# Altium integrated library TI Data Converters Analog to Digital Converter.IntLib: 2197 symbols (part 166 of 168)
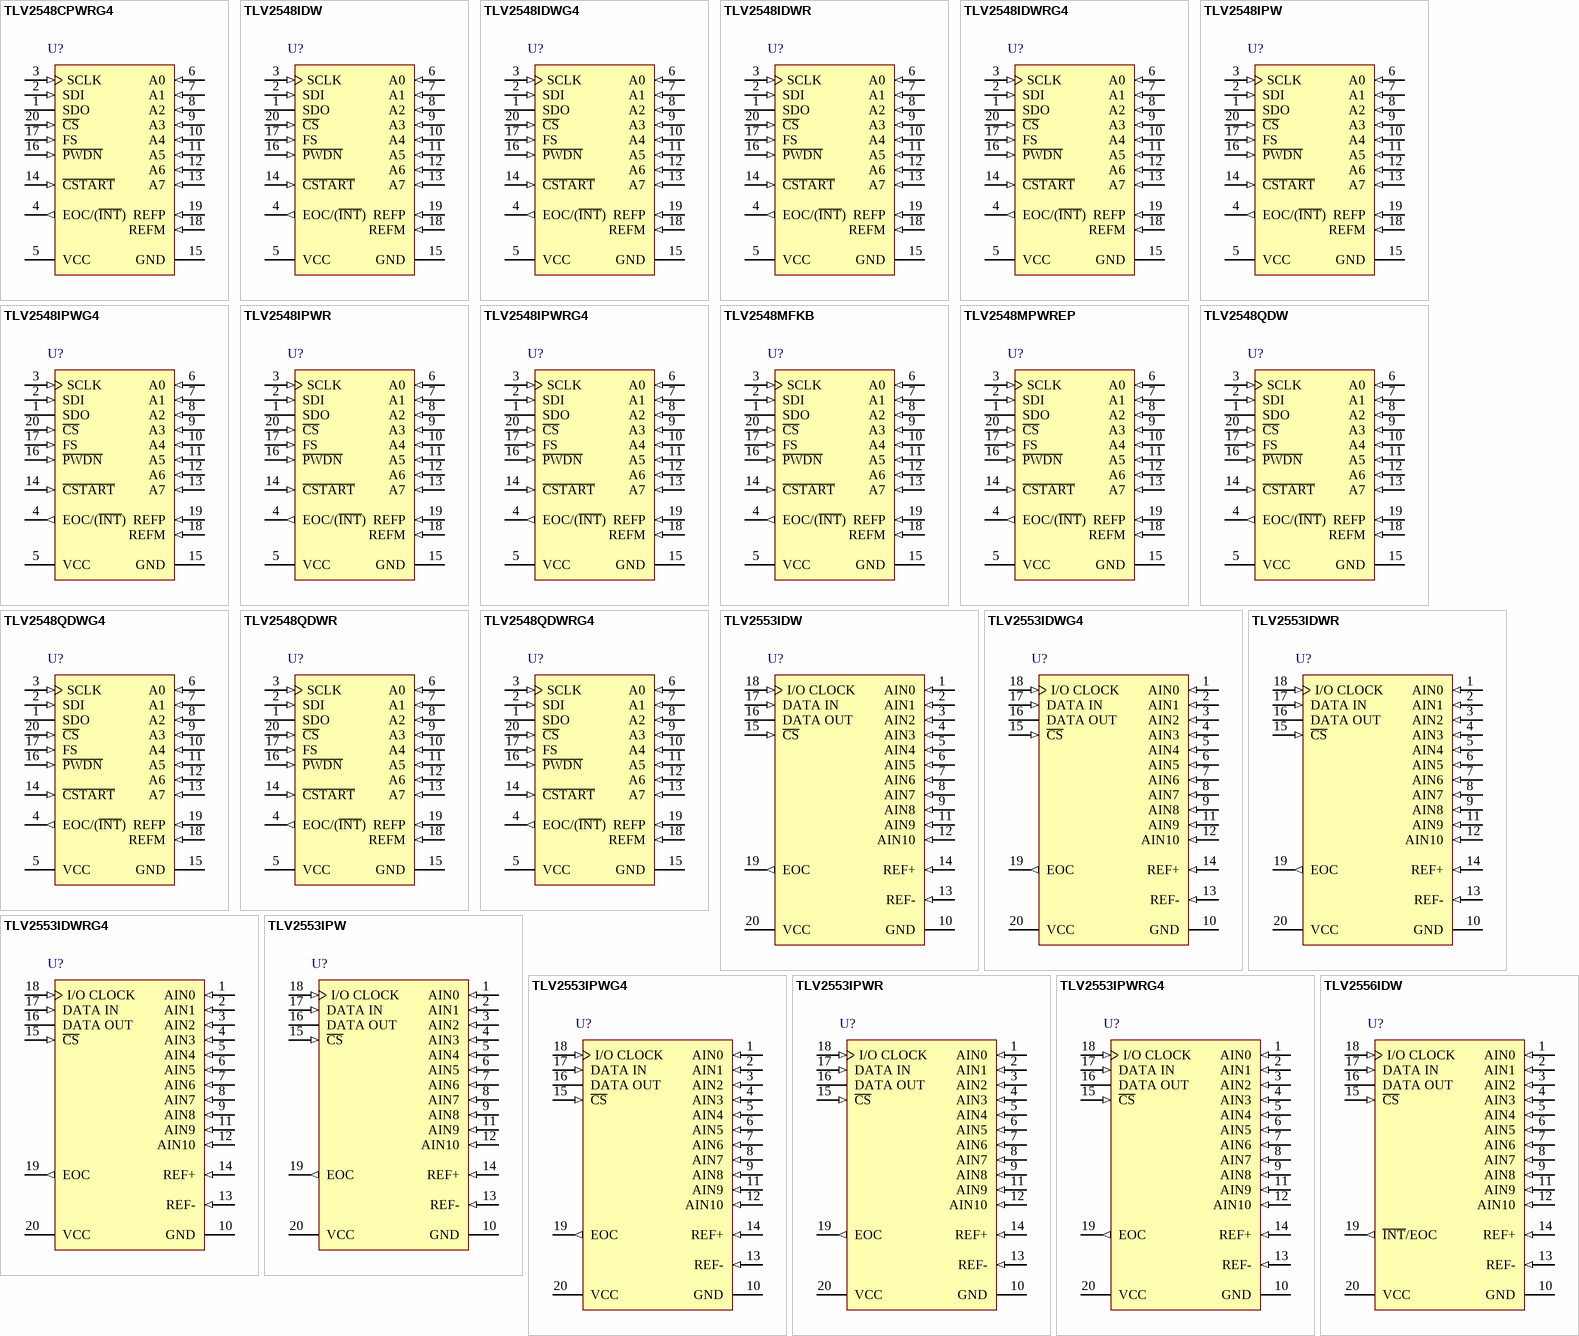
[diagram p291: symbols TLV2548CPWRG4 to TLV2556IDW]

## TLV2553IDWRG4
designator U?
12-Bit, 200 kSPS, 11 Channel, Low Power, Serial ADC Serial Out, with Power Down, -40 to 85 degC, 20-pin SOP (PW20), Green (RoHS & no Sb/Br); Manufacturer: Texas Instruments; PartNumber: TLV2553IDWRG4; # Input Channels: 11; Analog Voltage AV/DD(Max)(V): 5.5; Analog Voltage AV/DD(Min)(V): 2.7; Architecture: SAR; INL(Max)(+/-LSB): 1; Interface: Serial SPI; Resolution(Bits): 12; Sample Rate (max)(SPS): 200k; SubFamily: Precision ADC (<=10MSPS); DatasheetVersion: SLAS354B; PackageVersion: 4040000-4/G, 01/2011; PackageReference: DW20; PackageDescription: 20-Pin Plastic Small Outline, Body 12.8 x 7.5 mm, Pitch 1.27 mm; Supplier 1: Digi-Key; Supplier Part Number 1: ADS61JB23IRHAR-ND; Supplier 2: Newark; Supplier Part Number 2: 55W5800; Supplier 3: Mouser; Supplier Part Number 3: 595-ADS61JB23IRHAR; Digital Supply(Max)(V): 5.5; Digital Supply(Min)(V): 2.7; Eco-Plan: Green (RoHS & no Sb/Br); Mounting Technology: Surface Mount; Code_JEDEC: MO-013; ComponentLink1Description: Manufacturer URL; ComponentLink1URL: http://www.ti.com/; ComponentLink2Description: Datasheet; ComponentLink2URL: http://www.ti.com/general/docs/lit/getliterature.tsp?genericPartNumber=TLV2553&fileType=pdf; ComponentLink3Description: Package Specification; ComponentLink3URL: http://www.ti.com/lit/ml/mpds173a/mpds173a.pdf
footprint TI-DW20_N (SOIC, 20-Leads, Body 12.8x7.5mm, Pitch 1.27mm, IPC Medium Density)
footprint TI-DW20_L (SOIC, 20-Leads, Body 12.8x7.5mm, Pitch 1.27mm, IPC High Density)
footprint TI-DW20_M (SOIC, 20-Leads, Body 12.8x7.5mm, Pitch 1.27mm, IPC Low Density)
pins: 1 AIN0 (in) "Analog input. These 11 analog-signal inputs are internally multiplexed.", 2 AIN1 (in) "Analog input. These 11 analog-signal inputs are internally multiplexed.", 3 AIN2 (in) "Analog input. These 11 analog-signal inputs are internally multiplexed.", 4 AIN3 (in) "Analog input. These 11 analog-signal inputs are internally multiplexed.", 5 AIN4 (in) "Analog input. These 11 analog-signal inputs are internally multiplexed.", 6 AIN5 (in) "Analog input. These 11 analog-signal inputs are internally multiplexed.", 7 AIN6 (in) "Analog input. These 11 analog-signal inputs are internally multiplexed.", 8 AIN7 (in) "Analog input. These 11 analog-signal inputs are internally multiplexed.", 9 AIN8 (in) "Analog input. These 11 analog-signal inputs are internally multiplexed.", 10 GND (power) "Ground. GND is the ground return terminal for the internal circuitry. Unless otherwise noted, all voltage measurements are with respect to GND.", 11 AIN9 (in) "Analog input. These 11 analog-signal inputs are internally multiplexed.", 12 AIN10 (in) "Analog input. These 11 analog-signal inputs are internally multiplexed.", 13 REF- (in) "Negative reference voltage. The lower reference voltage value (nominally ground) is applied to REF-. This pin is connected to analog ground (GND of the ADC) when internal reference is used.", 14 REF+ (in) "Positive reference voltage The upper reference voltage value (nominally VCC) is applied to REF+. The maximum analog input voltage range is determined by the difference between the voltage applied to terminals REF+ and REF-.", 15 ~{CS} (in) "Chip select. A high-to-low transition on C\S\ resets the internal counters and controls and enables DATA OUT, DATA IN, and I/O CLOCK. A low-to-high transition disables DATA IN and I/O CLOCK within a setup time.", 16 DATA OUT (hiz) "The 3-state serial output for the A/D conversion result. DATA OUT is in the high-impedance state when C\S\ is high and active when C\S\ is low. With a valid C\S\, DATA OUT is removed from the high-impedance state and is (See Datasheet)", 17 DATA IN (in) "Serial data input. The 4-bit serial data can be used as address selects the desired analog input channel or test voltage to be converted next, or a command to activate other other features. The input data is presented with (See Datasheet)", 18 I/O CLOCK (in) "Input /output clock. I/O CLOCK receives the serial input and performs the following four functions:", 19 EOC (out) "Status output, used to indicate the end of conversion (EOC) to the host processor. EOC goes from a high to a low logic level after the falling edge of the last I/O CLOCK and remains low until the conversion is complete and (See Datasheet)", 20 VCC (power) "Positive supply voltage"

## TLV2553IPW
designator U?
12-Bit, 200 kSPS, 11 Channel, Low Power, Serial ADC Serial Out, with Power Down, -40 to 85 degC, 20-pin SOP (PW20), Green (RoHS & no Sb/Br); Manufacturer: Texas Instruments; PartNumber: TLV2553IPW; # Input Channels: 11; Analog Voltage AV/DD(Max)(V): 5.5; Analog Voltage AV/DD(Min)(V): 2.7; Architecture: SAR; INL(Max)(+/-LSB): 1; Interface: Serial SPI; Resolution(Bits): 12; Sample Rate (max)(SPS): 200k; SubFamily: Precision ADC (<=10MSPS); DatasheetVersion: SLAS354B; PackageVersion: 4040064-5/G, 02/2011; PackageReference: PW20; PackageDescription: 20-Pin Plastic Small Outline, Body 6.5 x 4.4 mm, Pitch 0.65 mm; Supplier 1: Digi-Key; Supplier Part Number 1: ADC10040QCIMT-ND; Supplier 2: Mouser; Supplier Part Number 2: 926-ADC10040QCIMT; Digital Supply(Max)(V): 5.5; Digital Supply(Min)(V): 2.7; Eco-Plan: Green (RoHS & no Sb/Br); Mounting Technology: Surface Mount; Code_JEDEC: MO-153; ComponentLink1Description: Manufacturer URL; ComponentLink1URL: http://www.ti.com/; ComponentLink2Description: Datasheet; ComponentLink2URL: http://www.ti.com/general/docs/lit/getliterature.tsp?genericPartNumber=TLV2553&fileType=pdf; ComponentLink3Description: Package Specification; ComponentLink3URL: http://www.ti.com.cn/cn/lit/ml/mpds362/mpds362.pdf
footprint TI-PW20_N (SOP, 20-Leads, Body 6.5x4.4mm, Pitch 0.65mm, IPC Medium Density)
footprint TI-PW20_L (SOP, 20-Leads, Body 6.5x4.4mm, Pitch 0.65mm, IPC High Density)
footprint TI-PW20_M (SOP, 20-Leads, Body 6.5x4.4mm, Pitch 0.65mm, IPC Low Density)
pins: 1 AIN0 (in) "Analog input. These 11 analog-signal inputs are internally multiplexed.", 2 AIN1 (in) "Analog input. These 11 analog-signal inputs are internally multiplexed.", 3 AIN2 (in) "Analog input. These 11 analog-signal inputs are internally multiplexed.", 4 AIN3 (in) "Analog input. These 11 analog-signal inputs are internally multiplexed.", 5 AIN4 (in) "Analog input. These 11 analog-signal inputs are internally multiplexed.", 6 AIN5 (in) "Analog input. These 11 analog-signal inputs are internally multiplexed.", 7 AIN6 (in) "Analog input. These 11 analog-signal inputs are internally multiplexed.", 8 AIN7 (in) "Analog input. These 11 analog-signal inputs are internally multiplexed.", 9 AIN8 (in) "Analog input. These 11 analog-signal inputs are internally multiplexed.", 10 GND (power) "Ground. GND is the ground return terminal for the internal circuitry. Unless otherwise noted, all voltage measurements are with respect to GND.", 11 AIN9 (in) "Analog input. These 11 analog-signal inputs are internally multiplexed.", 12 AIN10 (in) "Analog input. These 11 analog-signal inputs are internally multiplexed.", 13 REF- (in) "Negative reference voltage. The lower reference voltage value (nominally ground) is applied to REF-. This pin is connected to analog ground (GND of the ADC) when internal reference is used.", 14 REF+ (in) "Positive reference voltage The upper reference voltage value (nominally VCC) is applied to REF+. The maximum analog input voltage range is determined by the difference between the voltage applied to terminals REF+ and REF-.", 15 ~{CS} (in) "Chip select. A high-to-low transition on C\S\ resets the internal counters and controls and enables DATA OUT, DATA IN, and I/O CLOCK. A low-to-high transition disables DATA IN and I/O CLOCK within a setup time.", 16 DATA OUT (hiz) "The 3-state serial output for the A/D conversion result. DATA OUT is in the high-impedance state when C\S\ is high and active when C\S\ is low. With a valid C\S\, DATA OUT is removed from the high-impedance state and is (See Datasheet)", 17 DATA IN (in) "Serial data input. The 4-bit serial data can be used as address selects the desired analog input channel or test voltage to be converted next, or a command to activate other other features. The input data is presented with (See Datasheet)", 18 I/O CLOCK (in) "Input /output clock. I/O CLOCK receives the serial input and performs the following four functions:", 19 EOC (out) "Status output, used to indicate the end of conversion (EOC) to the host processor. EOC goes from a high to a low logic level after the falling edge of the last I/O CLOCK and remains low until the conversion is complete and (See Datasheet)", 20 VCC (power) "Positive supply voltage"

## TLV2553IPWG4
designator U?
12-Bit, 200 kSPS, 11 Channel, Low Power, Serial ADC Serial Out, with Power Down, -40 to 85 degC, 20-pin SOP (PW20), Green (RoHS & no Sb/Br); Manufacturer: Texas Instruments; PartNumber: TLV2553IPWG4; # Input Channels: 11; Analog Voltage AV/DD(Max)(V): 5.5; Analog Voltage AV/DD(Min)(V): 2.7; Architecture: SAR; INL(Max)(+/-LSB): 1; Interface: Serial SPI; Resolution(Bits): 12; Sample Rate (max)(SPS): 200k; SubFamily: Precision ADC (<=10MSPS); DatasheetVersion: SLAS354B; PackageVersion: 4040064-5/G, 02/2011; PackageReference: PW20; PackageDescription: 20-Pin Plastic Small Outline, Body 6.5 x 4.4 mm, Pitch 0.65 mm; Supplier 1: Digi-Key; Supplier Part Number 1: ADS61JB23IRHAT-ND; Supplier 2: Newark; Supplier Part Number 2: 55W5801; Supplier 3: Mouser; Supplier Part Number 3: 595-ADS61JB23IRHAT; Digital Supply(Max)(V): 5.5; Digital Supply(Min)(V): 2.7; Eco-Plan: Green (RoHS & no Sb/Br); Mounting Technology: Surface Mount; Code_JEDEC: MO-153; ComponentLink1Description: Manufacturer URL; ComponentLink1URL: http://www.ti.com/; ComponentLink2Description: Datasheet; ComponentLink2URL: http://www.ti.com/general/docs/lit/getliterature.tsp?genericPartNumber=TLV2553&fileType=pdf; ComponentLink3Description: Package Specification; ComponentLink3URL: http://www.ti.com.cn/cn/lit/ml/mpds362/mpds362.pdf
footprint TI-PW20_N (SOP, 20-Leads, Body 6.5x4.4mm, Pitch 0.65mm, IPC Medium Density)
footprint TI-PW20_L (SOP, 20-Leads, Body 6.5x4.4mm, Pitch 0.65mm, IPC High Density)
footprint TI-PW20_M (SOP, 20-Leads, Body 6.5x4.4mm, Pitch 0.65mm, IPC Low Density)
pins: 1 AIN0 (in) "Analog input. These 11 analog-signal inputs are internally multiplexed.", 2 AIN1 (in) "Analog input. These 11 analog-signal inputs are internally multiplexed.", 3 AIN2 (in) "Analog input. These 11 analog-signal inputs are internally multiplexed.", 4 AIN3 (in) "Analog input. These 11 analog-signal inputs are internally multiplexed.", 5 AIN4 (in) "Analog input. These 11 analog-signal inputs are internally multiplexed.", 6 AIN5 (in) "Analog input. These 11 analog-signal inputs are internally multiplexed.", 7 AIN6 (in) "Analog input. These 11 analog-signal inputs are internally multiplexed.", 8 AIN7 (in) "Analog input. These 11 analog-signal inputs are internally multiplexed.", 9 AIN8 (in) "Analog input. These 11 analog-signal inputs are internally multiplexed.", 10 GND (power) "Ground. GND is the ground return terminal for the internal circuitry. Unless otherwise noted, all voltage measurements are with respect to GND.", 11 AIN9 (in) "Analog input. These 11 analog-signal inputs are internally multiplexed.", 12 AIN10 (in) "Analog input. These 11 analog-signal inputs are internally multiplexed.", 13 REF- (in) "Negative reference voltage. The lower reference voltage value (nominally ground) is applied to REF-. This pin is connected to analog ground (GND of the ADC) when internal reference is used.", 14 REF+ (in) "Positive reference voltage The upper reference voltage value (nominally VCC) is applied to REF+. The maximum analog input voltage range is determined by the difference between the voltage applied to terminals REF+ and REF-.", 15 ~{CS} (in) "Chip select. A high-to-low transition on C\S\ resets the internal counters and controls and enables DATA OUT, DATA IN, and I/O CLOCK. A low-to-high transition disables DATA IN and I/O CLOCK within a setup time.", 16 DATA OUT (hiz) "The 3-state serial output for the A/D conversion result. DATA OUT is in the high-impedance state when C\S\ is high and active when C\S\ is low. With a valid C\S\, DATA OUT is removed from the high-impedance state and is (See Datasheet)", 17 DATA IN (in) "Serial data input. The 4-bit serial data can be used as address selects the desired analog input channel or test voltage to be converted next, or a command to activate other other features. The input data is presented with (See Datasheet)", 18 I/O CLOCK (in) "Input /output clock. I/O CLOCK receives the serial input and performs the following four functions:", 19 EOC (out) "Status output, used to indicate the end of conversion (EOC) to the host processor. EOC goes from a high to a low logic level after the falling edge of the last I/O CLOCK and remains low until the conversion is complete and (See Datasheet)", 20 VCC (power) "Positive supply voltage"

## TLV2553IPWR
designator U?
12-Bit, 200 kSPS, 11 Channel, Low Power, Serial ADC Serial Out, with Power Down, -40 to 85 degC, 20-pin SOP (PW20), Green (RoHS & no Sb/Br); Manufacturer: Texas Instruments; PartNumber: TLV2553IPWR; # Input Channels: 11; Analog Voltage AV/DD(Max)(V): 5.5; Analog Voltage AV/DD(Min)(V): 2.7; Architecture: SAR; INL(Max)(+/-LSB): 1; Interface: Serial SPI; Resolution(Bits): 12; Sample Rate (max)(SPS): 200k; SubFamily: Precision ADC (<=10MSPS); DatasheetVersion: SLAS354B; PackageVersion: 4040064-5/G, 02/2011; PackageReference: PW20; PackageDescription: 20-Pin Plastic Small Outline, Body 6.5 x 4.4 mm, Pitch 0.65 mm; Digital Supply(Max)(V): 5.5; Digital Supply(Min)(V): 2.7; Eco-Plan: Green (RoHS & no Sb/Br); Mounting Technology: Surface Mount; Code_JEDEC: MO-153; ComponentLink1Description: Manufacturer URL; ComponentLink1URL: http://www.ti.com/; ComponentLink2Description: Datasheet; ComponentLink2URL: http://www.ti.com/general/docs/lit/getliterature.tsp?genericPartNumber=TLV2553&fileType=pdf; ComponentLink3Description: Package Specification; ComponentLink3URL: http://www.ti.com.cn/cn/lit/ml/mpds362/mpds362.pdf
footprint TI-PW20_N (SOP, 20-Leads, Body 6.5x4.4mm, Pitch 0.65mm, IPC Medium Density)
footprint TI-PW20_L (SOP, 20-Leads, Body 6.5x4.4mm, Pitch 0.65mm, IPC High Density)
footprint TI-PW20_M (SOP, 20-Leads, Body 6.5x4.4mm, Pitch 0.65mm, IPC Low Density)
pins: 1 AIN0 (in) "Analog input. These 11 analog-signal inputs are internally multiplexed.", 2 AIN1 (in) "Analog input. These 11 analog-signal inputs are internally multiplexed.", 3 AIN2 (in) "Analog input. These 11 analog-signal inputs are internally multiplexed.", 4 AIN3 (in) "Analog input. These 11 analog-signal inputs are internally multiplexed.", 5 AIN4 (in) "Analog input. These 11 analog-signal inputs are internally multiplexed.", 6 AIN5 (in) "Analog input. These 11 analog-signal inputs are internally multiplexed.", 7 AIN6 (in) "Analog input. These 11 analog-signal inputs are internally multiplexed.", 8 AIN7 (in) "Analog input. These 11 analog-signal inputs are internally multiplexed.", 9 AIN8 (in) "Analog input. These 11 analog-signal inputs are internally multiplexed.", 10 GND (power) "Ground. GND is the ground return terminal for the internal circuitry. Unless otherwise noted, all voltage measurements are with respect to GND.", 11 AIN9 (in) "Analog input. These 11 analog-signal inputs are internally multiplexed.", 12 AIN10 (in) "Analog input. These 11 analog-signal inputs are internally multiplexed.", 13 REF- (in) "Negative reference voltage. The lower reference voltage value (nominally ground) is applied to REF-. This pin is connected to analog ground (GND of the ADC) when internal reference is used.", 14 REF+ (in) "Positive reference voltage The upper reference voltage value (nominally VCC) is applied to REF+. The maximum analog input voltage range is determined by the difference between the voltage applied to terminals REF+ and REF-.", 15 ~{CS} (in) "Chip select. A high-to-low transition on C\S\ resets the internal counters and controls and enables DATA OUT, DATA IN, and I/O CLOCK. A low-to-high transition disables DATA IN and I/O CLOCK within a setup time.", 16 DATA OUT (hiz) "The 3-state serial output for the A/D conversion result. DATA OUT is in the high-impedance state when C\S\ is high and active when C\S\ is low. With a valid C\S\, DATA OUT is removed from the high-impedance state and is (See Datasheet)", 17 DATA IN (in) "Serial data input. The 4-bit serial data can be used as address selects the desired analog input channel or test voltage to be converted next, or a command to activate other other features. The input data is presented with (See Datasheet)", 18 I/O CLOCK (in) "Input /output clock. I/O CLOCK receives the serial input and performs the following four functions:", 19 EOC (out) "Status output, used to indicate the end of conversion (EOC) to the host processor. EOC goes from a high to a low logic level after the falling edge of the last I/O CLOCK and remains low until the conversion is complete and (See Datasheet)", 20 VCC (power) "Positive supply voltage"

## TLV2553IPWRG4
designator U?
12-Bit, 200 kSPS, 11 Channel, Low Power, Serial ADC Serial Out, with Power Down, -40 to 85 degC, 20-pin SOIC (DW20), Green (RoHS & no Sb/Br); Manufacturer: Texas Instruments; PartNumber: TLV2553IPWRG4; # Input Channels: 11; Analog Voltage AV/DD(Max)(V): 5.5; Analog Voltage AV/DD(Min)(V): 2.7; Architecture: SAR; INL(Max)(+/-LSB): 1; Interface: Serial SPI; Resolution(Bits): 12; Sample Rate (max)(SPS): 200k; SubFamily: Precision ADC (<=10MSPS); DatasheetVersion: SLAS354B; PackageVersion: 4040064-5/G, 02/2011; PackageReference: PW20; PackageDescription: 20-Pin Plastic Small Outline, Body 6.5 x 4.4 mm, Pitch 0.65 mm; Digital Supply(Max)(V): 5.5; Digital Supply(Min)(V): 2.7; Eco-Plan: Green (RoHS & no Sb/Br); Mounting Technology: Surface Mount; Code_JEDEC: MO-153; ComponentLink1Description: Manufacturer URL; ComponentLink1URL: http://www.ti.com/; ComponentLink2Description: Datasheet; ComponentLink2URL: http://www.ti.com/general/docs/lit/getliterature.tsp?genericPartNumber=TLV2553&fileType=pdf; ComponentLink3Description: Package Specification; ComponentLink3URL: http://www.ti.com.cn/cn/lit/ml/mpds362/mpds362.pdf
footprint TI-PW20_N (SOP, 20-Leads, Body 6.5x4.4mm, Pitch 0.65mm, IPC Medium Density)
footprint TI-PW20_L (SOP, 20-Leads, Body 6.5x4.4mm, Pitch 0.65mm, IPC High Density)
footprint TI-PW20_M (SOP, 20-Leads, Body 6.5x4.4mm, Pitch 0.65mm, IPC Low Density)
pins: 1 AIN0 (in) "Analog input. These 11 analog-signal inputs are internally multiplexed.", 2 AIN1 (in) "Analog input. These 11 analog-signal inputs are internally multiplexed.", 3 AIN2 (in) "Analog input. These 11 analog-signal inputs are internally multiplexed.", 4 AIN3 (in) "Analog input. These 11 analog-signal inputs are internally multiplexed.", 5 AIN4 (in) "Analog input. These 11 analog-signal inputs are internally multiplexed.", 6 AIN5 (in) "Analog input. These 11 analog-signal inputs are internally multiplexed.", 7 AIN6 (in) "Analog input. These 11 analog-signal inputs are internally multiplexed.", 8 AIN7 (in) "Analog input. These 11 analog-signal inputs are internally multiplexed.", 9 AIN8 (in) "Analog input. These 11 analog-signal inputs are internally multiplexed.", 10 GND (power) "Ground. GND is the ground return terminal for the internal circuitry. Unless otherwise noted, all voltage measurements are with respect to GND.", 11 AIN9 (in) "Analog input. These 11 analog-signal inputs are internally multiplexed.", 12 AIN10 (in) "Analog input. These 11 analog-signal inputs are internally multiplexed.", 13 REF- (in) "Negative reference voltage. The lower reference voltage value (nominally ground) is applied to REF-. This pin is connected to analog ground (GND of the ADC) when internal reference is used.", 14 REF+ (in) "Positive reference voltage The upper reference voltage value (nominally VCC) is applied to REF+. The maximum analog input voltage range is determined by the difference between the voltage applied to terminals REF+ and REF-.", 15 ~{CS} (in) "Chip select. A high-to-low transition on C\S\ resets the internal counters and controls and enables DATA OUT, DATA IN, and I/O CLOCK. A low-to-high transition disables DATA IN and I/O CLOCK within a setup time.", 16 DATA OUT (hiz) "The 3-state serial output for the A/D conversion result. DATA OUT is in the high-impedance state when C\S\ is high and active when C\S\ is low. With a valid C\S\, DATA OUT is removed from the high-impedance state and is (See Datasheet)", 17 DATA IN (in) "Serial data input. The 4-bit serial data can be used as address selects the desired analog input channel or test voltage to be converted next, or a command to activate other other features. The input data is presented with (See Datasheet)", 18 I/O CLOCK (in) "Input /output clock. I/O CLOCK receives the serial input and performs the following four functions:", 19 EOC (out) "Status output, used to indicate the end of conversion (EOC) to the host processor. EOC goes from a high to a low logic level after the falling edge of the last I/O CLOCK and remains low until the conversion is complete and (See Datasheet)", 20 VCC (power) "Positive supply voltage"

## TLV2556IDW
designator U?
12-Bit, 200 kSPS, 11 Channel, Low Power, Serial ADC with Internal Reference, -40 to 85 degC, 20-pin SOIC (DW20), Green (RoHS & no Sb/Br); Manufacturer: Texas Instruments; PartNumber: TLV2556IDW; # Input Channels: 11; Analog Voltage AV/DD(Max)(V): 5.5; Analog Voltage AV/DD(Min)(V): 2.7; Architecture: SAR; INL(Max)(+/-LSB): 1; Interface: Serial SPI; Resolution(Bits): 12; Sample Rate (max)(SPS): 200k; SubFamily: Precision ADC (<=10MSPS); DatasheetVersion: SLAS355A; PackageVersion: 4040000-4/G, 01/2011; PackageReference: DW20; PackageDescription: 20-Pin Plastic Small Outline, Body 12.8 x 7.5 mm, Pitch 1.27 mm; Supplier 1: Digi-Key; Supplier Part Number 1: ADS131E08IPAG-ND; Supplier 2: Farnell; Supplier Part Number 2: 2211367; Supplier 3: Newark; Supplier Part Number 3: 27W9304; Supplier 4: Newark; Supplier Part Number 4: 44W8049; Supplier 5: Mouser; Supplier Part Number 5: 595-ADS131E08IPAG; Digital Supply(Max)(V): 5.5; Digital Supply(Min)(V): 2.7; Eco-Plan: Green (RoHS & no Sb/Br); Mounting Technology: Surface Mount; Code_JEDEC: MO-013; ComponentLink1Description: Manufacturer URL; ComponentLink1URL: http://www.ti.com/; ComponentLink2Description: Datasheet; ComponentLink2URL: http://www.ti.com/general/docs/lit/getliterature.tsp?genericPartNumber=TLV2556&fileType=pdf; ComponentLink3Description: Package Specification; ComponentLink3URL: http://www.ti.com/lit/ml/mpds173a/mpds173a.pdf
footprint TI-DW20_N (SOIC, 20-Leads, Body 12.8x7.5mm, Pitch 1.27mm, IPC Medium Density)
footprint TI-DW20_L (SOIC, 20-Leads, Body 12.8x7.5mm, Pitch 1.27mm, IPC High Density)
footprint TI-DW20_M (SOIC, 20-Leads, Body 12.8x7.5mm, Pitch 1.27mm, IPC Low Density)
pins: 1 AIN0 (in) "Analog input. These 11 analog-signal inputs are internally multiplexed.", 2 AIN1 (in) "Analog input. These 11 analog-signal inputs are internally multiplexed.", 3 AIN2 (in) "Analog input. These 11 analog-signal inputs are internally multiplexed.", 4 AIN3 (in) "Analog input. These 11 analog-signal inputs are internally multiplexed.", 5 AIN4 (in) "Analog input. These 11 analog-signal inputs are internally multiplexed.", 6 AIN5 (in) "Analog input. These 11 analog-signal inputs are internally multiplexed.", 7 AIN6 (in) "Analog input. These 11 analog-signal inputs are internally multiplexed.", 8 AIN7 (in) "Analog input. These 11 analog-signal inputs are internally multiplexed.", 9 AIN8 (in) "Analog input. These 11 analog-signal inputs are internally multiplexed.", 10 GND (power) "Ground. GND is the ground return terminal for the internal circuitry. Unless otherwise noted, all voltage measurements are with respect to GND.", 11 AIN9 (in) "Analog input. These 11 analog-signal inputs are internally multiplexed.", 12 AIN10 (in) "Analog input. These 11 analog-signal inputs are internally multiplexed.", 13 REF- (in) "Negative reference voltage. The lower reference voltage value (nominally ground) is applied to REF-. This pin is connected to analog ground (GND of the ADC) when the internal reference is used.", 14 REF+ (in) "Positive reference voltage The upper reference voltage value (nominally VCC) is applied to REF+. The maximum analog input voltage range is determined by the difference between the voltage applied to terminals REF+ and REF-. (See Datasheet)", 15 ~{CS} (in) "Chip select. A high-to-low transition on C\S\ resets the internal counters and controls and enables DATA OUT, DATA IN, and I/O CLOCK. A low-to-high transition disables DATA IN and I/O CLOCK within a setup time.", 16 DATA OUT (hiz) "The 3-state serial output for the A/D conversion result. DATA OUT is in the high-impedance state when C\S\ is high and active when C\S\ is low. With a valid C\S\, DATA OUT is removed from the high-impedance state and is (See Datasheet)", 17 DATA IN (in) "Serial data input. The 4-bit serial data can be used as address selects the desired analog input channel or test voltage to be converted next, or a command to activate other other features. The input data is presented with (See Datasheet)", 18 I/O CLOCK (in) "Input/output clock. I/O CLOCK receives the serial input and performs the following four functions: 1. It clocks the eight input data bits into the input data register on the first eight rising edges of I/O CLOCK with the (See Datasheet)", 19 ~{INT}/EOC (out) "Status output, used to indicate the end of conversion (EOC) or an interrupt (INT) to host processor. Programmed as INT (interrupt): INT goes from a high to a low logic level after the conversion is complete and the data is (See Datasheet)", 20 VCC (power) "Positive supply voltage"

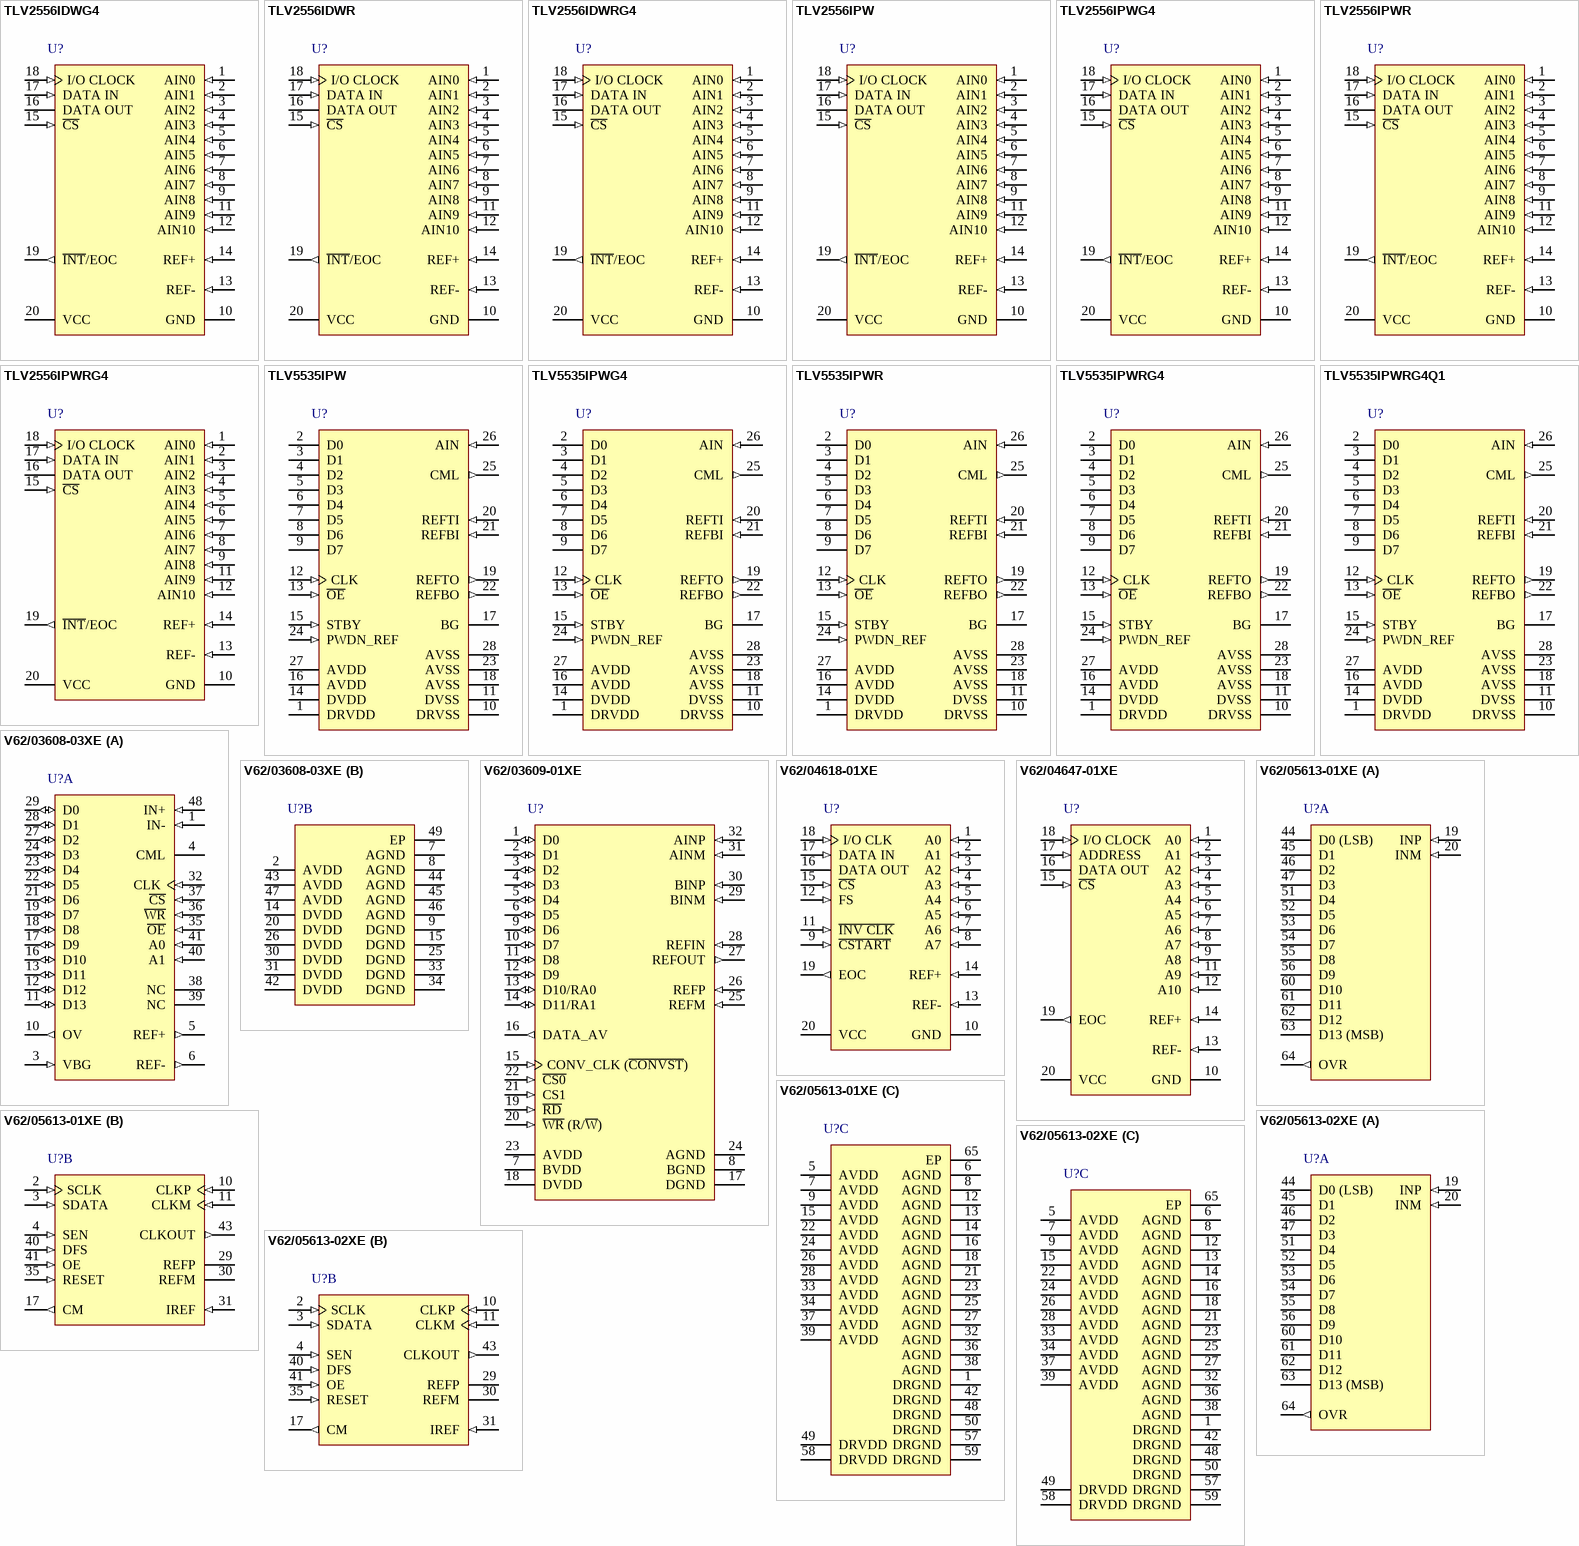
[diagram p125: symbols TLV2556IDWG4 to V62/05613-02XE]

## TLV2556IDWG4
designator U?
12-Bit, 200 kSPS, 11 Channel, Low Power, Serial ADC with Internal Reference, -40 to 85 degC, 20-pin SOIC (DW20), Green (RoHS & no Sb/Br); Manufacturer: Texas Instruments; PartNumber: TLV2556IDWG4; # Input Channels: 11; Analog Voltage AV/DD(Max)(V): 5.5; Analog Voltage AV/DD(Min)(V): 2.7; Architecture: SAR; INL(Max)(+/-LSB): 1; Interface: Serial SPI; Resolution(Bits): 12; Sample Rate (max)(SPS): 200k; SubFamily: Precision ADC (<=10MSPS); DatasheetVersion: SLAS355A; PackageVersion: 4040000-4/G, 01/2011; PackageReference: DW20; PackageDescription: 20-Pin Plastic Small Outline, Body 12.8 x 7.5 mm, Pitch 1.27 mm; Supplier 1: Digi-Key; Supplier Part Number 1: 296-36196-5-ND; Supplier 2: Newark; Supplier Part Number 2: 87W7687; Supplier 3: Mouser; Supplier Part Number 3: 595-ADS5404IZAY; Digital Supply(Max)(V): 5.5; Digital Supply(Min)(V): 2.7; Eco-Plan: Green (RoHS & no Sb/Br); Mounting Technology: Surface Mount; Code_JEDEC: MO-013; ComponentLink1Description: Manufacturer URL; ComponentLink1URL: http://www.ti.com/; ComponentLink2Description: Datasheet; ComponentLink2URL: http://www.ti.com/general/docs/lit/getliterature.tsp?genericPartNumber=TLV2556&fileType=pdf; ComponentLink3Description: Package Specification; ComponentLink3URL: http://www.ti.com/lit/ml/mpds173a/mpds173a.pdf
footprint TI-DW20_N (SOIC, 20-Leads, Body 12.8x7.5mm, Pitch 1.27mm, IPC Medium Density)
footprint TI-DW20_L (SOIC, 20-Leads, Body 12.8x7.5mm, Pitch 1.27mm, IPC High Density)
footprint TI-DW20_M (SOIC, 20-Leads, Body 12.8x7.5mm, Pitch 1.27mm, IPC Low Density)
pins: 1 AIN0 (in) "Analog input. These 11 analog-signal inputs are internally multiplexed.", 2 AIN1 (in) "Analog input. These 11 analog-signal inputs are internally multiplexed.", 3 AIN2 (in) "Analog input. These 11 analog-signal inputs are internally multiplexed.", 4 AIN3 (in) "Analog input. These 11 analog-signal inputs are internally multiplexed.", 5 AIN4 (in) "Analog input. These 11 analog-signal inputs are internally multiplexed.", 6 AIN5 (in) "Analog input. These 11 analog-signal inputs are internally multiplexed.", 7 AIN6 (in) "Analog input. These 11 analog-signal inputs are internally multiplexed.", 8 AIN7 (in) "Analog input. These 11 analog-signal inputs are internally multiplexed.", 9 AIN8 (in) "Analog input. These 11 analog-signal inputs are internally multiplexed.", 10 GND (power) "Ground. GND is the ground return terminal for the internal circuitry. Unless otherwise noted, all voltage measurements are with respect to GND.", 11 AIN9 (in) "Analog input. These 11 analog-signal inputs are internally multiplexed.", 12 AIN10 (in) "Analog input. These 11 analog-signal inputs are internally multiplexed.", 13 REF- (in) "Negative reference voltage. The lower reference voltage value (nominally ground) is applied to REF-. This pin is connected to analog ground (GND of the ADC) when the internal reference is used.", 14 REF+ (in) "Positive reference voltage The upper reference voltage value (nominally VCC) is applied to REF+. The maximum analog input voltage range is determined by the difference between the voltage applied to terminals REF+ and REF-. (See Datasheet)", 15 ~{CS} (in) "Chip select. A high-to-low transition on C\S\ resets the internal counters and controls and enables DATA OUT, DATA IN, and I/O CLOCK. A low-to-high transition disables DATA IN and I/O CLOCK within a setup time.", 16 DATA OUT (hiz) "The 3-state serial output for the A/D conversion result. DATA OUT is in the high-impedance state when C\S\ is high and active when C\S\ is low. With a valid C\S\, DATA OUT is removed from the high-impedance state and is (See Datasheet)", 17 DATA IN (in) "Serial data input. The 4-bit serial data can be used as address selects the desired analog input channel or test voltage to be converted next, or a command to activate other other features. The input data is presented with (See Datasheet)", 18 I/O CLOCK (in) "Input/output clock. I/O CLOCK receives the serial input and performs the following four functions: 1. It clocks the eight input data bits into the input data register on the first eight rising edges of I/O CLOCK with the (See Datasheet)", 19 ~{INT}/EOC (out) "Status output, used to indicate the end of conversion (EOC) or an interrupt (INT) to host processor. Programmed as INT (interrupt): INT goes from a high to a low logic level after the conversion is complete and the data is (See Datasheet)", 20 VCC (power) "Positive supply voltage"

## TLV2556IDWR
designator U?
12-Bit, 200 kSPS, 11 Channel, Low Power, Serial ADC with Internal Reference, -40 to 85 degC, 20-pin SOIC (DW20), Green (RoHS & no Sb/Br); Manufacturer: Texas Instruments; PartNumber: TLV2556IDWR; # Input Channels: 11; Analog Voltage AV/DD(Max)(V): 5.5; Analog Voltage AV/DD(Min)(V): 2.7; Architecture: SAR; INL(Max)(+/-LSB): 1; Interface: Serial SPI; Resolution(Bits): 12; Sample Rate (max)(SPS): 200k; SubFamily: Precision ADC (<=10MSPS); DatasheetVersion: SLAS355A; PackageVersion: 4040000-4/G, 01/2011; PackageReference: DW20; PackageDescription: 20-Pin Plastic Small Outline, Body 12.8 x 7.5 mm, Pitch 1.27 mm; Supplier 1: Newark; Supplier Part Number 1: 87W7688; Supplier 2: Mouser; Supplier Part Number 2: 595-ADS5404IZAYR; Digital Supply(Max)(V): 5.5; Digital Supply(Min)(V): 2.7; Eco-Plan: Green (RoHS & no Sb/Br); Mounting Technology: Surface Mount; Code_JEDEC: MO-013; ComponentLink1Description: Manufacturer URL; ComponentLink1URL: http://www.ti.com/; ComponentLink2Description: Datasheet; ComponentLink2URL: http://www.ti.com/general/docs/lit/getliterature.tsp?genericPartNumber=TLV2556&fileType=pdf; ComponentLink3Description: Package Specification; ComponentLink3URL: http://www.ti.com/lit/ml/mpds173a/mpds173a.pdf
footprint TI-DW20_N (SOIC, 20-Leads, Body 12.8x7.5mm, Pitch 1.27mm, IPC Medium Density)
footprint TI-DW20_L (SOIC, 20-Leads, Body 12.8x7.5mm, Pitch 1.27mm, IPC High Density)
footprint TI-DW20_M (SOIC, 20-Leads, Body 12.8x7.5mm, Pitch 1.27mm, IPC Low Density)
pins: 1 AIN0 (in) "Analog input. These 11 analog-signal inputs are internally multiplexed.", 2 AIN1 (in) "Analog input. These 11 analog-signal inputs are internally multiplexed.", 3 AIN2 (in) "Analog input. These 11 analog-signal inputs are internally multiplexed.", 4 AIN3 (in) "Analog input. These 11 analog-signal inputs are internally multiplexed.", 5 AIN4 (in) "Analog input. These 11 analog-signal inputs are internally multiplexed.", 6 AIN5 (in) "Analog input. These 11 analog-signal inputs are internally multiplexed.", 7 AIN6 (in) "Analog input. These 11 analog-signal inputs are internally multiplexed.", 8 AIN7 (in) "Analog input. These 11 analog-signal inputs are internally multiplexed.", 9 AIN8 (in) "Analog input. These 11 analog-signal inputs are internally multiplexed.", 10 GND (power) "Ground. GND is the ground return terminal for the internal circuitry. Unless otherwise noted, all voltage measurements are with respect to GND.", 11 AIN9 (in) "Analog input. These 11 analog-signal inputs are internally multiplexed.", 12 AIN10 (in) "Analog input. These 11 analog-signal inputs are internally multiplexed.", 13 REF- (in) "Negative reference voltage. The lower reference voltage value (nominally ground) is applied to REF-. This pin is connected to analog ground (GND of the ADC) when the internal reference is used.", 14 REF+ (in) "Positive reference voltage The upper reference voltage value (nominally VCC) is applied to REF+. The maximum analog input voltage range is determined by the difference between the voltage applied to terminals REF+ and REF-. (See Datasheet)", 15 ~{CS} (in) "Chip select. A high-to-low transition on C\S\ resets the internal counters and controls and enables DATA OUT, DATA IN, and I/O CLOCK. A low-to-high transition disables DATA IN and I/O CLOCK within a setup time.", 16 DATA OUT (hiz) "The 3-state serial output for the A/D conversion result. DATA OUT is in the high-impedance state when C\S\ is high and active when C\S\ is low. With a valid C\S\, DATA OUT is removed from the high-impedance state and is (See Datasheet)", 17 DATA IN (in) "Serial data input. The 4-bit serial data can be used as address selects the desired analog input channel or test voltage to be converted next, or a command to activate other other features. The input data is presented with (See Datasheet)", 18 I/O CLOCK (in) "Input/output clock. I/O CLOCK receives the serial input and performs the following four functions: 1. It clocks the eight input data bits into the input data register on the first eight rising edges of I/O CLOCK with the (See Datasheet)", 19 ~{INT}/EOC (out) "Status output, used to indicate the end of conversion (EOC) or an interrupt (INT) to host processor. Programmed as INT (interrupt): INT goes from a high to a low logic level after the conversion is complete and the data is (See Datasheet)", 20 VCC (power) "Positive supply voltage"

## TLV2556IDWRG4
designator U?
12-Bit, 200 kSPS, 11 Channel, Low Power, Serial ADC with Internal Reference, -40 to 85 degC, 20-pin SOIC (DW20), Green (RoHS & no Sb/Br); Manufacturer: Texas Instruments; PartNumber: TLV2556IDWRG4; # Input Channels: 11; Analog Voltage AV/DD(Max)(V): 5.5; Analog Voltage AV/DD(Min)(V): 2.7; Architecture: SAR; INL(Max)(+/-LSB): 1; Interface: Serial SPI; Resolution(Bits): 12; Sample Rate (max)(SPS): 200k; SubFamily: Precision ADC (<=10MSPS); DatasheetVersion: SLAS355A; PackageVersion: 4040000-4/G, 01/2011; PackageReference: DW20; PackageDescription: 20-Pin Plastic Small Outline, Body 12.8 x 7.5 mm, Pitch 1.27 mm; Supplier 1: Digi-Key; Supplier Part Number 1: ADC10040QCIMTX/NOPB-ND; Supplier 2: Mouser; Supplier Part Number 2: 926-AD10040QCIMTXNPB; Digital Supply(Max)(V): 5.5; Digital Supply(Min)(V): 2.7; Eco-Plan: Green (RoHS & no Sb/Br); Mounting Technology: Surface Mount; Code_JEDEC: MO-013; ComponentLink1Description: Manufacturer URL; ComponentLink1URL: http://www.ti.com/; ComponentLink2Description: Datasheet; ComponentLink2URL: http://www.ti.com/general/docs/lit/getliterature.tsp?genericPartNumber=TLV2556&fileType=pdf; ComponentLink3Description: Package Specification; ComponentLink3URL: http://www.ti.com/lit/ml/mpds173a/mpds173a.pdf
footprint TI-DW20_N (SOIC, 20-Leads, Body 12.8x7.5mm, Pitch 1.27mm, IPC Medium Density)
footprint TI-DW20_L (SOIC, 20-Leads, Body 12.8x7.5mm, Pitch 1.27mm, IPC High Density)
footprint TI-DW20_M (SOIC, 20-Leads, Body 12.8x7.5mm, Pitch 1.27mm, IPC Low Density)
pins: 1 AIN0 (in) "Analog input. These 11 analog-signal inputs are internally multiplexed.", 2 AIN1 (in) "Analog input. These 11 analog-signal inputs are internally multiplexed.", 3 AIN2 (in) "Analog input. These 11 analog-signal inputs are internally multiplexed.", 4 AIN3 (in) "Analog input. These 11 analog-signal inputs are internally multiplexed.", 5 AIN4 (in) "Analog input. These 11 analog-signal inputs are internally multiplexed.", 6 AIN5 (in) "Analog input. These 11 analog-signal inputs are internally multiplexed.", 7 AIN6 (in) "Analog input. These 11 analog-signal inputs are internally multiplexed.", 8 AIN7 (in) "Analog input. These 11 analog-signal inputs are internally multiplexed.", 9 AIN8 (in) "Analog input. These 11 analog-signal inputs are internally multiplexed.", 10 GND (power) "Ground. GND is the ground return terminal for the internal circuitry. Unless otherwise noted, all voltage measurements are with respect to GND.", 11 AIN9 (in) "Analog input. These 11 analog-signal inputs are internally multiplexed.", 12 AIN10 (in) "Analog input. These 11 analog-signal inputs are internally multiplexed.", 13 REF- (in) "Negative reference voltage. The lower reference voltage value (nominally ground) is applied to REF-. This pin is connected to analog ground (GND of the ADC) when the internal reference is used.", 14 REF+ (in) "Positive reference voltage The upper reference voltage value (nominally VCC) is applied to REF+. The maximum analog input voltage range is determined by the difference between the voltage applied to terminals REF+ and REF-. (See Datasheet)", 15 ~{CS} (in) "Chip select. A high-to-low transition on C\S\ resets the internal counters and controls and enables DATA OUT, DATA IN, and I/O CLOCK. A low-to-high transition disables DATA IN and I/O CLOCK within a setup time.", 16 DATA OUT (hiz) "The 3-state serial output for the A/D conversion result. DATA OUT is in the high-impedance state when C\S\ is high and active when C\S\ is low. With a valid C\S\, DATA OUT is removed from the high-impedance state and is (See Datasheet)", 17 DATA IN (in) "Serial data input. The 4-bit serial data can be used as address selects the desired analog input channel or test voltage to be converted next, or a command to activate other other features. The input data is presented with (See Datasheet)", 18 I/O CLOCK (in) "Input/output clock. I/O CLOCK receives the serial input and performs the following four functions: 1. It clocks the eight input data bits into the input data register on the first eight rising edges of I/O CLOCK with the (See Datasheet)", 19 ~{INT}/EOC (out) "Status output, used to indicate the end of conversion (EOC) or an interrupt (INT) to host processor. Programmed as INT (interrupt): INT goes from a high to a low logic level after the conversion is complete and the data is (See Datasheet)", 20 VCC (power) "Positive supply voltage"

## TLV2556IPW
designator U?
12-Bit, 200 kSPS, 11 Channel, Low Power, Serial ADC with Internal Reference, -40 to 85 degC, 20-pin SOP (PW20), Green (RoHS & no Sb/Br); Manufacturer: Texas Instruments; PartNumber: TLV2556IPW; # Input Channels: 11; Analog Voltage AV/DD(Max)(V): 5.5; Analog Voltage AV/DD(Min)(V): 2.7; Architecture: SAR; INL(Max)(+/-LSB): 1; Interface: Serial SPI; Resolution(Bits): 12; Sample Rate (max)(SPS): 200k; SubFamily: Precision ADC (<=10MSPS); DatasheetVersion: SLAS355A; PackageVersion: 4040064-5/G, 02/2011; PackageReference: PW20; PackageDescription: 20-Pin Plastic Small Outline, Body 6.5 x 4.4 mm, Pitch 0.65 mm; Supplier 1: Digi-Key; Supplier Part Number 1: ADS131E06IPAG-ND; Supplier 2: Farnell; Supplier Part Number 2: 2211366; Supplier 3: Newark; Supplier Part Number 3: 27W9301; Supplier 4: Newark; Supplier Part Number 4: 44W8048; Supplier 5: Mouser; Supplier Part Number 5: 595-ADS131E06IPAG; Digital Supply(Max)(V): 5.5; Digital Supply(Min)(V): 2.7; Eco-Plan: Green (RoHS & no Sb/Br); Mounting Technology: Surface Mount; Code_JEDEC: MO-153; ComponentLink1Description: Manufacturer URL; ComponentLink1URL: http://www.ti.com/; ComponentLink2Description: Datasheet; ComponentLink2URL: http://www.ti.com/general/docs/lit/getliterature.tsp?genericPartNumber=TLV2556&fileType=pdf; ComponentLink3Description: Package Specification; ComponentLink3URL: http://www.ti.com.cn/cn/lit/ml/mpds362/mpds362.pdf
footprint TI-PW20_N (SOP, 20-Leads, Body 6.5x4.4mm, Pitch 0.65mm, IPC Medium Density)
footprint TI-PW20_L (SOP, 20-Leads, Body 6.5x4.4mm, Pitch 0.65mm, IPC High Density)
footprint TI-PW20_M (SOP, 20-Leads, Body 6.5x4.4mm, Pitch 0.65mm, IPC Low Density)
pins: 1 AIN0 (in) "Analog input. These 11 analog-signal inputs are internally multiplexed.", 2 AIN1 (in) "Analog input. These 11 analog-signal inputs are internally multiplexed.", 3 AIN2 (in) "Analog input. These 11 analog-signal inputs are internally multiplexed.", 4 AIN3 (in) "Analog input. These 11 analog-signal inputs are internally multiplexed.", 5 AIN4 (in) "Analog input. These 11 analog-signal inputs are internally multiplexed.", 6 AIN5 (in) "Analog input. These 11 analog-signal inputs are internally multiplexed.", 7 AIN6 (in) "Analog input. These 11 analog-signal inputs are internally multiplexed.", 8 AIN7 (in) "Analog input. These 11 analog-signal inputs are internally multiplexed.", 9 AIN8 (in) "Analog input. These 11 analog-signal inputs are internally multiplexed.", 10 GND (power) "Ground. GND is the ground return terminal for the internal circuitry. Unless otherwise noted, all voltage measurements are with respect to GND.", 11 AIN9 (in) "Analog input. These 11 analog-signal inputs are internally multiplexed.", 12 AIN10 (in) "Analog input. These 11 analog-signal inputs are internally multiplexed.", 13 REF- (in) "Negative reference voltage. The lower reference voltage value (nominally ground) is applied to REF-. This pin is connected to analog ground (GND of the ADC) when the internal reference is used.", 14 REF+ (in) "Positive reference voltage The upper reference voltage value (nominally VCC) is applied to REF+. The maximum analog input voltage range is determined by the difference between the voltage applied to terminals REF+ and REF-. (See Datasheet)", 15 ~{CS} (in) "Chip select. A high-to-low transition on C\S\ resets the internal counters and controls and enables DATA OUT, DATA IN, and I/O CLOCK. A low-to-high transition disables DATA IN and I/O CLOCK within a setup time.", 16 DATA OUT (hiz) "The 3-state serial output for the A/D conversion result. DATA OUT is in the high-impedance state when C\S\ is high and active when C\S\ is low. With a valid C\S\, DATA OUT is removed from the high-impedance state and is (See Datasheet)", 17 DATA IN (in) "Serial data input. The 4-bit serial data can be used as address selects the desired analog input channel or test voltage to be converted next, or a command to activate other other features. The input data is presented with (See Datasheet)", 18 I/O CLOCK (in) "Input/output clock. I/O CLOCK receives the serial input and performs the following four functions: 1. It clocks the eight input data bits into the input data register on the first eight rising edges of I/O CLOCK with the (See Datasheet)", 19 ~{INT}/EOC (out) "Status output, used to indicate the end of conversion (EOC) or an interrupt (INT) to host processor. Programmed as INT (interrupt): INT goes from a high to a low logic level after the conversion is complete and the data is (See Datasheet)", 20 VCC (power) "Positive supply voltage"

## TLV2556IPWG4
designator U?
12-Bit, 200 kSPS, 11 Channel, Low Power, Serial ADC with Internal Reference, -40 to 85 degC, 20-pin SOP (PW20), Green (RoHS & no Sb/Br); Manufacturer: Texas Instruments; PartNumber: TLV2556IPWG4; # Input Channels: 11; Analog Voltage AV/DD(Max)(V): 5.5; Analog Voltage AV/DD(Min)(V): 2.7; Architecture: SAR; INL(Max)(+/-LSB): 1; Interface: Serial SPI; Resolution(Bits): 12; Sample Rate (max)(SPS): 200k; SubFamily: Precision ADC (<=10MSPS); DatasheetVersion: SLAS355A; PackageVersion: 4040064-5/G, 02/2011; PackageReference: PW20; PackageDescription: 20-Pin Plastic Small Outline, Body 6.5 x 4.4 mm, Pitch 0.65 mm; Supplier 1: Mouser; Supplier Part Number 1: N/A; Digital Supply(Max)(V): 5.5; Digital Supply(Min)(V): 2.7; Eco-Plan: Green (RoHS & no Sb/Br); Mounting Technology: Surface Mount; Code_JEDEC: MO-153; ComponentLink1Description: Manufacturer URL; ComponentLink1URL: http://www.ti.com/; ComponentLink2Description: Datasheet; ComponentLink2URL: http://www.ti.com/general/docs/lit/getliterature.tsp?genericPartNumber=TLV2556&fileType=pdf; ComponentLink3Description: Package Specification; ComponentLink3URL: http://www.ti.com.cn/cn/lit/ml/mpds362/mpds362.pdf
footprint TI-PW20_N (SOP, 20-Leads, Body 6.5x4.4mm, Pitch 0.65mm, IPC Medium Density)
footprint TI-PW20_L (SOP, 20-Leads, Body 6.5x4.4mm, Pitch 0.65mm, IPC High Density)
footprint TI-PW20_M (SOP, 20-Leads, Body 6.5x4.4mm, Pitch 0.65mm, IPC Low Density)
pins: 1 AIN0 (in) "Analog input. These 11 analog-signal inputs are internally multiplexed.", 2 AIN1 (in) "Analog input. These 11 analog-signal inputs are internally multiplexed.", 3 AIN2 (in) "Analog input. These 11 analog-signal inputs are internally multiplexed.", 4 AIN3 (in) "Analog input. These 11 analog-signal inputs are internally multiplexed.", 5 AIN4 (in) "Analog input. These 11 analog-signal inputs are internally multiplexed.", 6 AIN5 (in) "Analog input. These 11 analog-signal inputs are internally multiplexed.", 7 AIN6 (in) "Analog input. These 11 analog-signal inputs are internally multiplexed.", 8 AIN7 (in) "Analog input. These 11 analog-signal inputs are internally multiplexed.", 9 AIN8 (in) "Analog input. These 11 analog-signal inputs are internally multiplexed.", 10 GND (power) "Ground. GND is the ground return terminal for the internal circuitry. Unless otherwise noted, all voltage measurements are with respect to GND.", 11 AIN9 (in) "Analog input. These 11 analog-signal inputs are internally multiplexed.", 12 AIN10 (in) "Analog input. These 11 analog-signal inputs are internally multiplexed.", 13 REF- (in) "Negative reference voltage. The lower reference voltage value (nominally ground) is applied to REF-. This pin is connected to analog ground (GND of the ADC) when the internal reference is used.", 14 REF+ (in) "Positive reference voltage The upper reference voltage value (nominally VCC) is applied to REF+. The maximum analog input voltage range is determined by the difference between the voltage applied to terminals REF+ and REF-. (See Datasheet)", 15 ~{CS} (in) "Chip select. A high-to-low transition on C\S\ resets the internal counters and controls and enables DATA OUT, DATA IN, and I/O CLOCK. A low-to-high transition disables DATA IN and I/O CLOCK within a setup time.", 16 DATA OUT (hiz) "The 3-state serial output for the A/D conversion result. DATA OUT is in the high-impedance state when C\S\ is high and active when C\S\ is low. With a valid C\S\, DATA OUT is removed from the high-impedance state and is (See Datasheet)", 17 DATA IN (in) "Serial data input. The 4-bit serial data can be used as address selects the desired analog input channel or test voltage to be converted next, or a command to activate other other features. The input data is presented with (See Datasheet)", 18 I/O CLOCK (in) "Input/output clock. I/O CLOCK receives the serial input and performs the following four functions: 1. It clocks the eight input data bits into the input data register on the first eight rising edges of I/O CLOCK with the (See Datasheet)", 19 ~{INT}/EOC (out) "Status output, used to indicate the end of conversion (EOC) or an interrupt (INT) to host processor. Programmed as INT (interrupt): INT goes from a high to a low logic level after the conversion is complete and the data is (See Datasheet)", 20 VCC (power) "Positive supply voltage"